# Altium footprint library PcbLib1-GATE-DRV-SMPS-1.PcbLib: 45 footprints (part 2 of 3)
Each footprint in its own frame and in the unit in brackets; x right, y up, seen from the top. Pads: shape width x height; smd on the part's side, far side on the other; paste and mask are expansions set on the pad; w line width, h text height; cw(c..) or ccw(c..) is an arc to the next point about the centre after c.
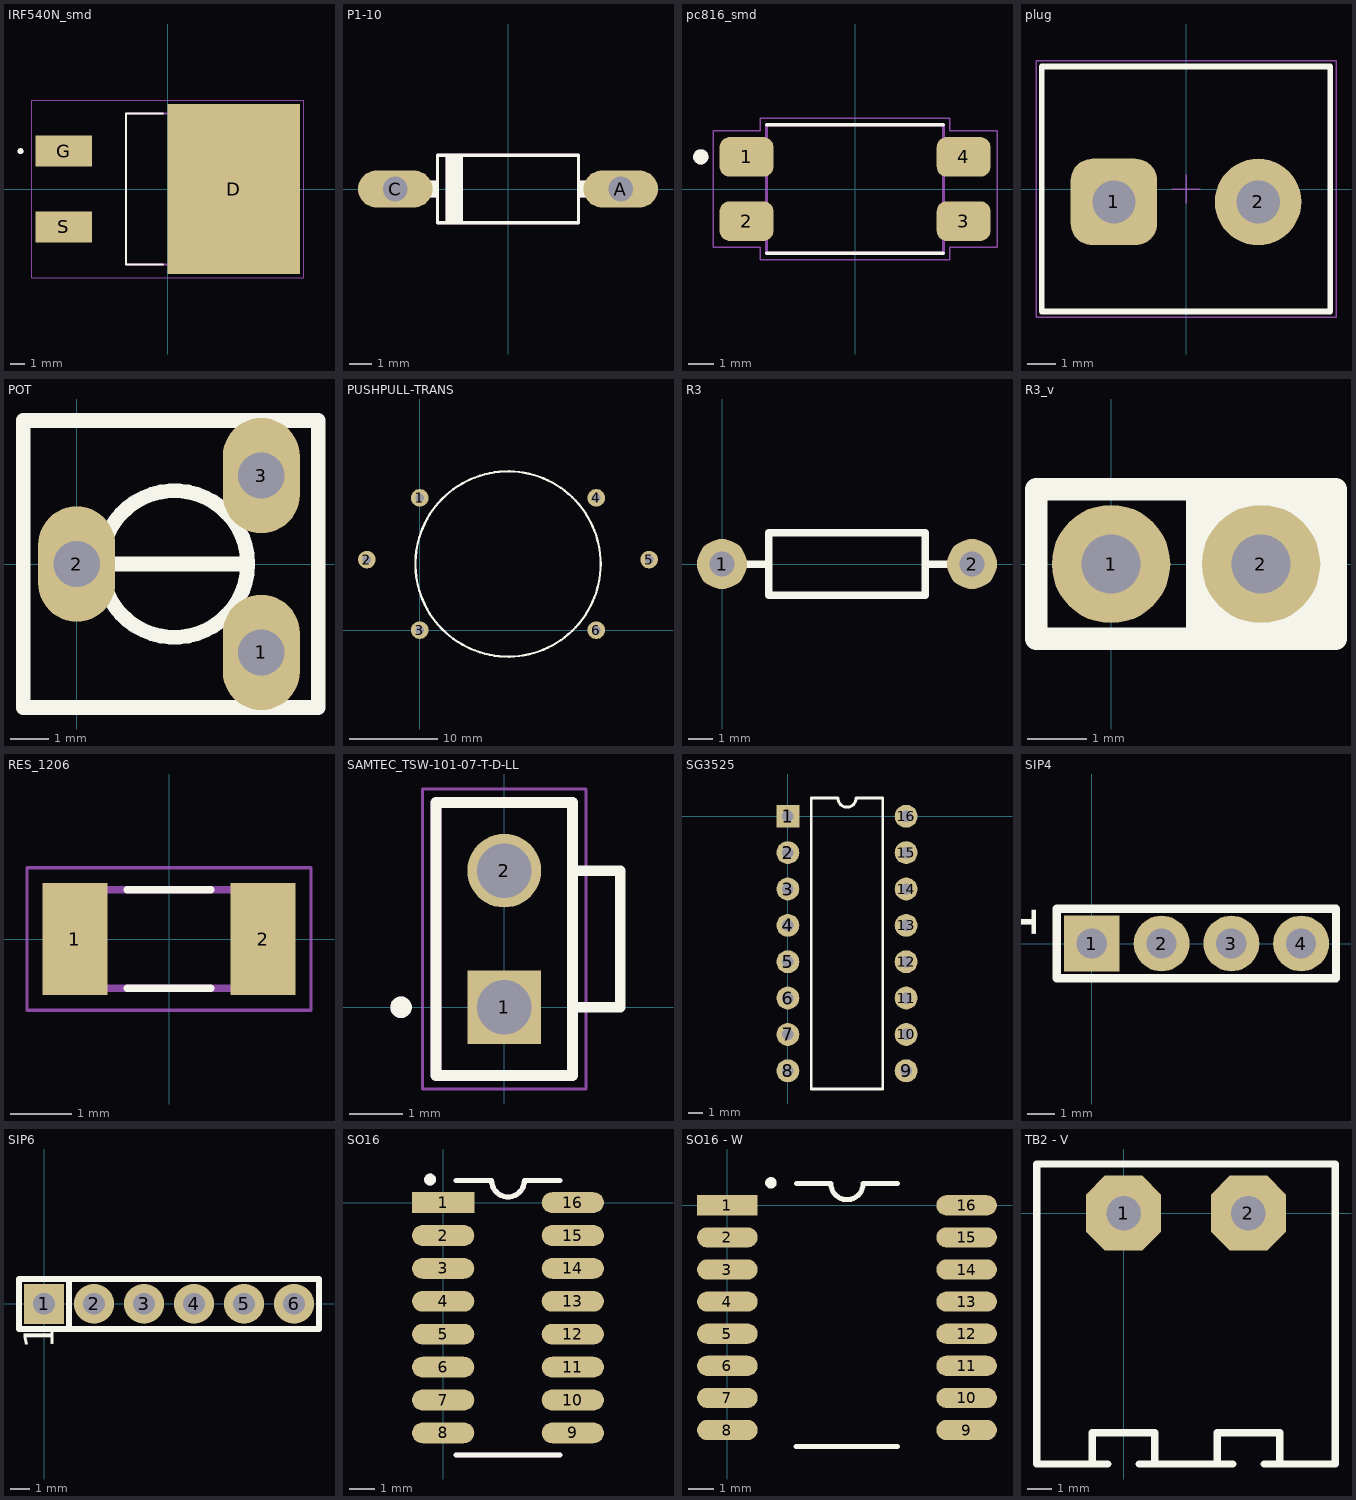
[diagram p1: the footprints below, top view; thin cyan lines are the x and y axes]

## IRF540N_smd [mm]
pads (3):
  rect 8.89x11.43 smd paste-7: D(4.445,0)
  rect 3.81x2.08 smd: G(-6.985,2.54) S(-6.985,-2.54)
Top Overlay:
  circle w0.2: c-9.89,2.54 r0.1
  lines w0.127: -0.32,-5.08 -2.795,-5.08 -2.795,5.08 -0.32,5.08
Top Paste:
  region: 3.985,-1.605 2.675,-1.605 2.675,-0.305 3.985,-0.305
  region: 1.755,-1.605 0.445,-1.605 0.445,-0.305 1.755,-0.305
  region: 6.215,-1.605 4.905,-1.605 4.905,-0.305 6.215,-0.305
  region: 8.445,-1.605 7.135,-1.605 7.135,-0.305 8.445,-0.305
  region: 3.985,0.305 2.675,0.305 2.675,1.605 3.985,1.605
  region: 1.755,0.305 0.445,0.305 0.445,1.605 1.755,1.605
  region: 6.215,0.305 4.905,0.305 4.905,1.605 6.215,1.605
  region: 8.445,0.305 7.135,0.305 7.135,1.605 8.445,1.605
  region: 3.985,2.215 2.675,2.215 2.675,3.515 3.985,3.515
  region: 1.755,2.215 0.445,2.215 0.445,3.515 1.755,3.515
  region: 6.215,2.215 4.905,2.215 4.905,3.515 6.215,3.515
  region: 8.445,2.215 7.135,2.215 7.135,3.515 8.445,3.515
  region: 3.985,-3.515 2.675,-3.515 2.675,-2.215 3.985,-2.215
  region: 1.755,-3.515 0.445,-3.515 0.445,-2.215 1.755,-2.215
  region: 6.215,-3.515 4.905,-3.515 4.905,-2.215 6.215,-2.215
  region: 8.445,-3.515 7.135,-3.515 7.135,-2.215 8.445,-2.215
  region: 3.985,4.125 2.675,4.125 2.675,5.425 3.985,5.425
  region: 1.755,4.125 0.445,4.125 0.445,5.425 1.755,5.425
  region: 6.215,4.125 4.905,4.125 4.905,5.425 6.215,5.425
  region: 8.445,4.125 7.135,4.125 7.135,5.425 8.445,5.425
  region: 3.985,-5.425 2.675,-5.425 2.675,-4.125 3.985,-4.125
  region: 1.755,-5.425 0.445,-5.425 0.445,-4.125 1.755,-4.125
  region: 6.215,-5.425 4.905,-5.425 4.905,-4.125 6.215,-4.125
  region: 8.445,-5.425 7.135,-5.425 7.135,-4.125 8.445,-4.125
Mechanical 13:
  circle w0.2: c-9.89,2.54 r0.1
  lines w0.127: -2.795,-5.08 6.285,-5.08 6.285,5.08 -2.795,5.08 -2.795,-5.08
Mechanical 15:
  lines w0.05: -9.14,-5.965 -9.14,5.965 9.14,5.965 9.14,-5.965 -9.14,-5.965
3D body "IRF540NSTRLPBF.STEP": height 4.83, standoff -0.25, extent -7.493,-5.08 7.747,5.08

## P1-10 [mil]
pads (2):
  oval 132x66 hole 44: A(200,0) C(-200,0)
Top Overlay:
  region: 155,-15.01 125.09,-15.01 125.09,15 155,15
  region: -125,-15.02 -155.17,-15.02 -155.17,15 -125,15
  region: -80,-60.07 -110.14,-60.07 -110.14,60 -80,60
  lines w6: -125,-60 -125,60 125,60 125,-60 -125,-60
Mechanical 13:
  lines w30: -200,0 -160,0 ; 160,0 200,0
Mechanical 29:
  region: -80,-60.07 -110.14,-60.07 -110.14,60 -80,60
  region: -125,-15.02 -155.17,-15.02 -155.17,15 -125,15
  region: 155,-15.01 125.09,-15.01 125.09,15 155,15
  lines w6: -125,-60 125,-60 125,60 -125,60 -125,-60
  text "'.Designator''" at -165.35,-106.3 h27.56

## pc816_smd [mm]
pads (4):
  rrect50% 2.13x1.57 smd: 1(-4.29,1.27) 2(-4.29,-1.27) 3(4.29,-1.27) 4(4.29,1.27)
Top Overlay:
  circle w0.3: c-6.1,1.27 r0.15
  lines w0.127: -3.5,-2.54 3.5,-2.54 ; -3.5,2.54 3.5,2.54
Mechanical 13:
  circle w0.3: c-6.1,1.27 r0.15
  lines w0.127: -3.5,-2.54 3.5,-2.54 3.5,2.54 -3.5,2.54 -3.5,-2.54
Mechanical 15:
  lines w0.05: -5.61,-2.31 -3.75,-2.31 -3.75,-2.79 3.75,-2.79 3.75,-2.31 5.61,-2.31 5.61,2.31 3.75,2.31 3.75,2.79 -3.75,2.79 -3.75,2.31 -5.61,2.31 -5.61,-2.31
3D body "step_temp.STEP": height 4, standoff 0, extent -4.875,-2.29 4.875,2.29

## plug [mm] "5.00mm - Open Vertical PCB Header - 02p"
height 12
pads (2):
  rrect50% 3x3 hole 1.5: 1(-2.5,-0.45)
  round 3 hole 1.5: 2(2.5,-0.45)
Top Overlay:
  lines w0.2: -5,-4.25 5,-4.25 5,4.25 -5,4.25 -5,-4.25
Top Courtyard:
  lines w0.05: -5.2,-4.45 5.2,-4.45 5.2,4.45 -5.2,4.45 -5.2,-4.45
Top Designator:
  text ".Designator" at -7.498,-0.5 h1.5
Top 3D Body:
  lines w0.1: -5,-4.25 5,-4.25 5,4.25 -5,4.25 -5,-4.25
Top Component Outline:
  lines w0.1: -5,-4.25 -5,4.25 5,4.25 5,-4.25 -5,-4.25
Top Component Center:
  lines w0.05: -0.5,0 0.5,0 ; 0,-0.5 0,0.5
3D body "691311700002.stp": height 12.1, standoff -3.9, extent -5,-4.25 5,4.25

## POT [mm]
pads (3):
  oval 2x3 hole 1.2: 1(4.8,-2.3) 2(0,0) 3(4.8,2.3)
Top Overlay:
  circle w0.381: c2.54,0 r1.905
  lines w0.381: 0.635,0 4.445,0 ; -1.39,-3.73 6.28,-3.73 6.28,3.73 -1.39,3.73 -1.39,-3.73

## PUSHPULL-TRANS [mm]
pads (6):
  round 2 hole 1: 1(0,15) 2(-6,8) 3(0,0) 4(20,15) 5(26,8) 6(20,0)
Top Overlay:
  circle w0.254: c10,7.5 r10.5

## R3 [mil]
pads (2):
  round 80 hole 39.37: 1(0,0) 2(400,0)
Top Overlay:
  lines w12: 0,0 75,0 ; 325,0 400,0 ; 75,-50 75,50 325,50 325,-50 75,-50
3D body "RES-0.25W-H-CF.stp": height 185.04, standoff -19.68, extent -10.83,-50.18 410.74,52.18

## R3_v [mil]
pads (2):
  round 79 hole 39.37: 1(0,0) 2(100,0)
Top Overlay:
  rectangle: 50,-50 150,50
  lines w15: -50,-50 150,-50 150,50 -50,50 -50,-50
3D body "RES-0.25W-V-CF.stp": height 374.08, standoff -98.43, extent -42.96,-46 168.96,56.36

## RES_1206 [mm]
pads (2):
  rect 1.06x1.82 smd: 1(-1.528,0) 2(1.528,0)
Top Overlay:
  lines w0.127: -0.68,-0.8 0.68,-0.8 ; -0.68,0.8 0.68,0.8
Mechanical 13:
  lines w0.127: -1.6,-0.8 1.6,-0.8 1.6,0.8 -1.6,0.8 -1.6,-0.8
Mechanical 15:
  lines w0.05: -2.308,-1.158 2.308,-1.158 2.308,1.158 -2.308,1.158 -2.308,-1.158
3D body "step_temp.STEP": height 0.7, standoff 0, extent -1.6,-0.8 1.6,0.8

## SAMTEC_TSW-101-07-T-D-LL [mm]
pads (2):
  rect 1.37x1.37 hole 1.02: 1(0,0)
  round 1.37 hole 1.02: 2(0,2.54)
Top Overlay:
  circle w0.2: c-1.92,0 r0.1
  lines w0.2: 1.27,0 2.159,0 2.159,2.54 1.27,2.54 ; -1.27,-1.27 -1.27,3.81 1.27,3.81 1.27,-1.27 -1.27,-1.27
Mechanical 13:
  circle w0.2: c-1.92,0 r0.1
  lines w0.1: -1.27,-1.27 -1.27,3.81 1.27,3.81 1.27,-1.27 -1.27,-1.27
Mechanical 15:
  lines w0.05: -1.52,-1.52 -1.52,4.06 1.52,4.06 1.52,-1.52 -1.52,-1.52
Mechanical 29:
  circle w0.2: c-1.92,0 r0.1
  lines w0.2: -1.27,-1.27 1.27,-1.27 1.27,3.81 -1.27,3.81 -1.27,-1.27
  text "'.Designator''" at -3.8,-2.2 h0.7
3D body "TSW-101-07-T-D-LL.stp": height 7.89, standoff -3.04, extent -1.34,-1.34 1.2,3.74

## SG3525 [mm]
pads (16):
  rect 1.6x1.6 hole 0.8: 1(0,0)
  round 1.6 hole 0.8: 2(0,-2.54) 3(0,-5.08) 4(0,-7.62) 5(0,-10.16) 6(0,-12.7) 7(0,-15.24) 8(0,-17.78) 9(8.26,-17.78) 10(8.26,-15.24) 11(8.26,-12.7) 12(8.26,-10.16) 13(8.26,-7.62) 14(8.26,-5.08) 15(8.26,-2.54) 16(8.26,0)
Top Overlay:
  lines w0.2: 1.635,-19.05 1.635,1.27 3.495,1.27 ccw(c4.13,1.27) 4.765,1.27 6.625,1.27 6.625,-19.05 1.635,-19.05

## SIP4 [mil]
pads (4):
  rect 80x80 hole 43.31: 1(0,0)
  round 80 hole 43.31: 2(100,0) 3(200,0) 4(300,0)
Top Overlay:
  lines w12: -50,-50 350,-50 350,50 -50,50 -50,-50
  text "1" at -80,3 h60
3D body "Header1x2.STEP": height 333.79, standoff -98.49, extent -50,-45 150,55
3D body "Header1x2.STEP": height 333.79, standoff -98.49, extent 150,-45 350,55

## SIP6 [mil]
pads (6):
  rect 80x80 hole 43.31: 1(0,0)
  round 80 hole 43.31: 2(100,0) 3(200,0) 4(300,0) 5(400,0) 6(500,0)
Top Overlay:
  lines w12: 50,-50 50,50 ; -50,-50 -50,50 550,50 550,-50 -50,-50
  text "1" at 19,-91 h60
3D body "DS1021-1x6SF11.stp": height 338.58, standoff -118.11, extent -51,-50 549,50

## SO16 [mm]
pads (16):
  rect 2.4x0.8 smd: 1(0,0)
  oval 2.4x0.8 smd: 2(0,-1.27) 3(0,-2.54) 4(0,-3.81) 5(0,-5.08) 6(0,-6.35) 7(0,-7.62) 8(0,-8.89) 9(5,-8.89) 10(5,-7.62) 11(5,-6.35) 12(5,-5.08) 13(5,-3.81) 14(5,-2.54) 15(5,-1.27) 16(5,0)
Top Overlay:
  circle w0.254: c-0.508,0.889 r0.1
  lines w0.2: 0.5,-9.745 4.5,-9.745 ; 0.5,0.855 1.865,0.855 ccw(c2.5,0.855) 3.135,0.855 4.5,0.855
Mechanical 29:
  circle w0.254: c-0.508,0.889 r0.1
  lines w0.2: 0.5,-9.745 4.5,-9.745 ; 0.5,0.855 1.865,0.855 ccw(c2.5,0.855) 3.135,0.855 4.5,0.855
  text "'.Designator''" at -1.143,2.921 h0.7
3D body "SOIC-16.step": height 1.4, standoff 0, extent -0.587,-9.392 5.413,0.508

## SO16 - W [mm]
pads (16):
  rect 2.4x0.8 smd: 1(0,0)
  oval 2.4x0.8 smd: 2(0,-1.27) 3(0,-2.54) 4(0,-3.81) 5(0,-5.08) 6(0,-6.35) 7(0,-7.62) 8(0,-8.89) 9(9.47,-8.89) 10(9.47,-7.62) 11(9.47,-6.35) 12(9.47,-5.08) 13(9.47,-3.81) 14(9.47,-2.54) 15(9.47,-1.27) 16(9.47,0)
Top Overlay:
  circle w0.254: c1.727,0.889 r0.1
  lines w0.2: 2.725,-9.55 6.725,-9.55 ; 2.735,0.855 4.1,0.855 ccw(c4.735,0.855) 5.37,0.855 6.735,0.855
3D body "SOIC-16.step": height 1.4, standoff 0, extent 1.648,-9.392 7.648,0.508

## TB2 - V [mil] "Terminal Block Vertical"
pads (2):
  oct 120x120 hole 55.12: 1(0,0) 2(200,0)
Top Overlay:
  lines w12: -139.37,75 -139.37,-401.97 -25,-401.97 ; -139.37,78.74 339.37,78.74 ; -50,-401.97 -50,-351.97 50,-351.97 50,-401.97 ; 25,-401.97 175,-401.97 ; 150,-401.97 150,-351.97 250,-351.97 250,-401.97 ; 225,-401.97 339.37,-401.97 339.37,75
3D body "15EDGRC-5.08- 02P-14-00A(H).stp": height 283.46, standoff -133.86, extent -100,-314.96 300,47.24